# Altium footprint library IND(1.5uH, 1.7A, 100mOhm, 140Mhz, SMD).PcbLib: 1 footprints
Each footprint in its own frame and in the unit in brackets; x right, y up, seen from the top. Pads: shape width x height; smd on the part's side, far side on the other; paste and mask are expansions set on the pad; w line width, h text height; cw(c..) or ccw(c..) is an arc to the next point about the centre after c.
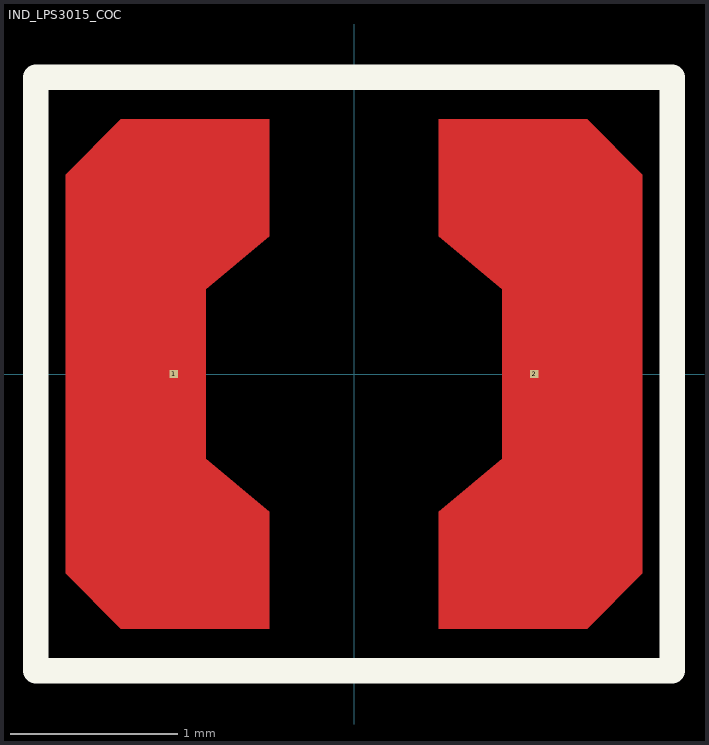
[diagram p0: the footprint, top view; thin cyan lines are the x and y axes]

## IND_LPS3015_COC [mil]
pads (2):
  rect 2x2 smd paste-1 mask-1: 1(-42.5,0) 2(42.5,0)
Top Layer:
  region: 20,32.5 20,60 55,60 68,47 68,-47 55,-60 20,-60 20,-32.5 35,-20 35,20
  region: -20,32.5 -20,60 -55,60 -68,47 -68,-47 -55,-60 -20,-60 -20,-32.5 -35,-20 -35,20
Top Overlay:
  lines w6: -75,-70 -75,70 -69.5,70 69.5,70 75,70 75,-70 69.5,-70 -69.5,-70 -75,-70
Top Paste:
  region: 20,32.5 20,60 55,60 68,47 68,-47 55,-60 20,-60 20,-32.5 35,-20 35,20
  region: -20,32.5 -20,60 -55,60 -68,47 -68,-47 -55,-60 -20,-60 -20,-32.5 -35,-20 -35,20
Top Solder:
  region: -20,32.5 -20,60 -55,60 -68,47 -68,-47 -55,-60 -20,-60 -20,-32.5 -35,-20 -35,20
  region: 20,32.5 20,60 55,60 68,47 68,-47 55,-60 20,-60 20,-32.5 35,-20 35,20
3D body "LPS3015-152MRC.stp": height 55, standoff 0, extent -58,-58 58,58